# Altium schematic symbol library G6E-134P-ST-US-DC3.SchLib: 1 symbol
Pins are listed as number, name and electrical type; pins without a type are passive.

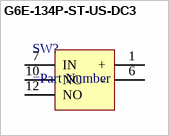
[diagram p0: symbol G6E-134P-ST-US-DC3]

## G6E-134P-ST-US-DC3
designator SW?
=Description
pins: 1 + (power), 6 - (power), 7 IN (power), 10 NC (power), 12 NO (power)